# Altium footprint library FFSB3065B-F085.PcbLib: 1 footprints
Each footprint in its own frame and in the unit in brackets; x right, y up, seen from the top. Pads: shape width x height; smd on the part's side, far side on the other; paste and mask are expansions set on the pad; w line width, h text height; cw(c..) or ccw(c..) is an arc to the next point about the centre after c.
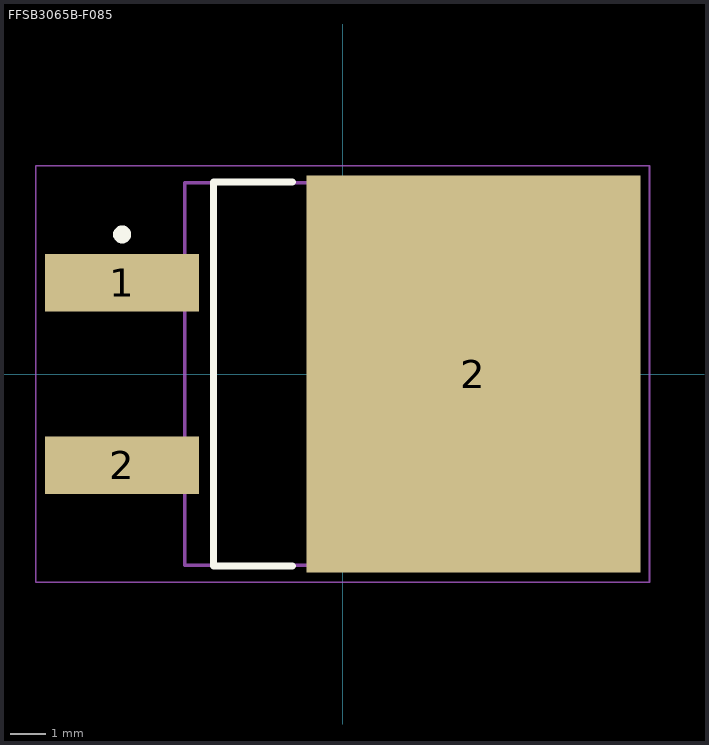
[diagram p0: the footprint, top view; thin cyan lines are the x and y axes]

## FFSB3065B-F085 [mil] "D2-PAK, 3-Pads, Body 7.93x8.70mm (max), IPC Medium Density"
height 190.16
pads (3):
  rect 169x62.99 smd: 1(-242,100) 2(-242,-100)
  rect 366x436 smd: 2(143.5,0)
Top Overlay:
  circle w9.84: c-242,153.15 r4.92
  lines w7.87: -55.25,-210.63 -141.75,-210.63 -141.75,210.63 -55.25,210.63
Assembly Top:
  lines w3.94: -173.23,-209.65 206.69,-209.65 206.69,209.65 -173.23,209.65 -173.23,-209.65
Courtyard Top:
  lines w1.97: -336.61,-228.35 336.61,-228.35 336.61,228.35 -336.61,228.35 -336.61,-228.35
  lines w3.94: -19.69,0 19.68,0 ; 0,-19.68 0,19.68
3D body "DPAK254P1524X483-3N.step": height 190.16, standoff 0, extent -297.24,-209.65 302.76,209.65